# Altium integrated library SMBJ28CA.IntLib: 1 symbol
Pins are listed as number, name and electrical type; pins without a type are passive.

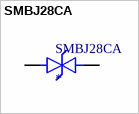
[diagram p0: symbol SMBJ28CA]

## SMBJ28CA
designator SMBJ28CA
footprint DIOM5336X250N
pins: 1, 2